# EAGLE library part D-TYPE_FLIPFLOP (library AmandaEagleLibrary)
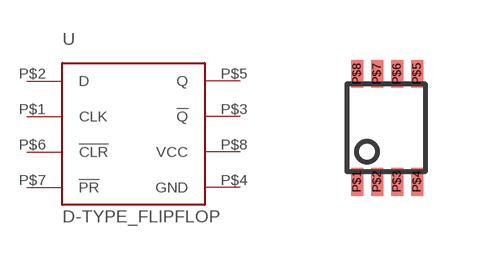
[diagram p4: symbol with the pads of 8-TSSOP; footprint 8-TSSOP]

Designator prefix -

## D-TYPE_FLIPFLOP  [8-TSSOP]
P$1  CLK
P$2  D
P$3  !Q
P$4  GND
P$5  Q
P$6  !CLR
P$7  !PR
P$8  VCC

## Footprint 8-TSSOP (pad centres in mm)
smd 0.3 x 0.7: P$1 -0.762,-1.27; P$2 -0.262,-1.27; P$3 0.238,-1.27; P$4 0.738,-1.27; P$5 0.738,1.43; P$6 0.238,1.43; P$7 -0.262,1.43; P$8 -0.762,1.43